# Altium schematic symbol library Project.SchLib: 28 symbols
Pins are listed as number, name and electrical type; pins without a type are passive.

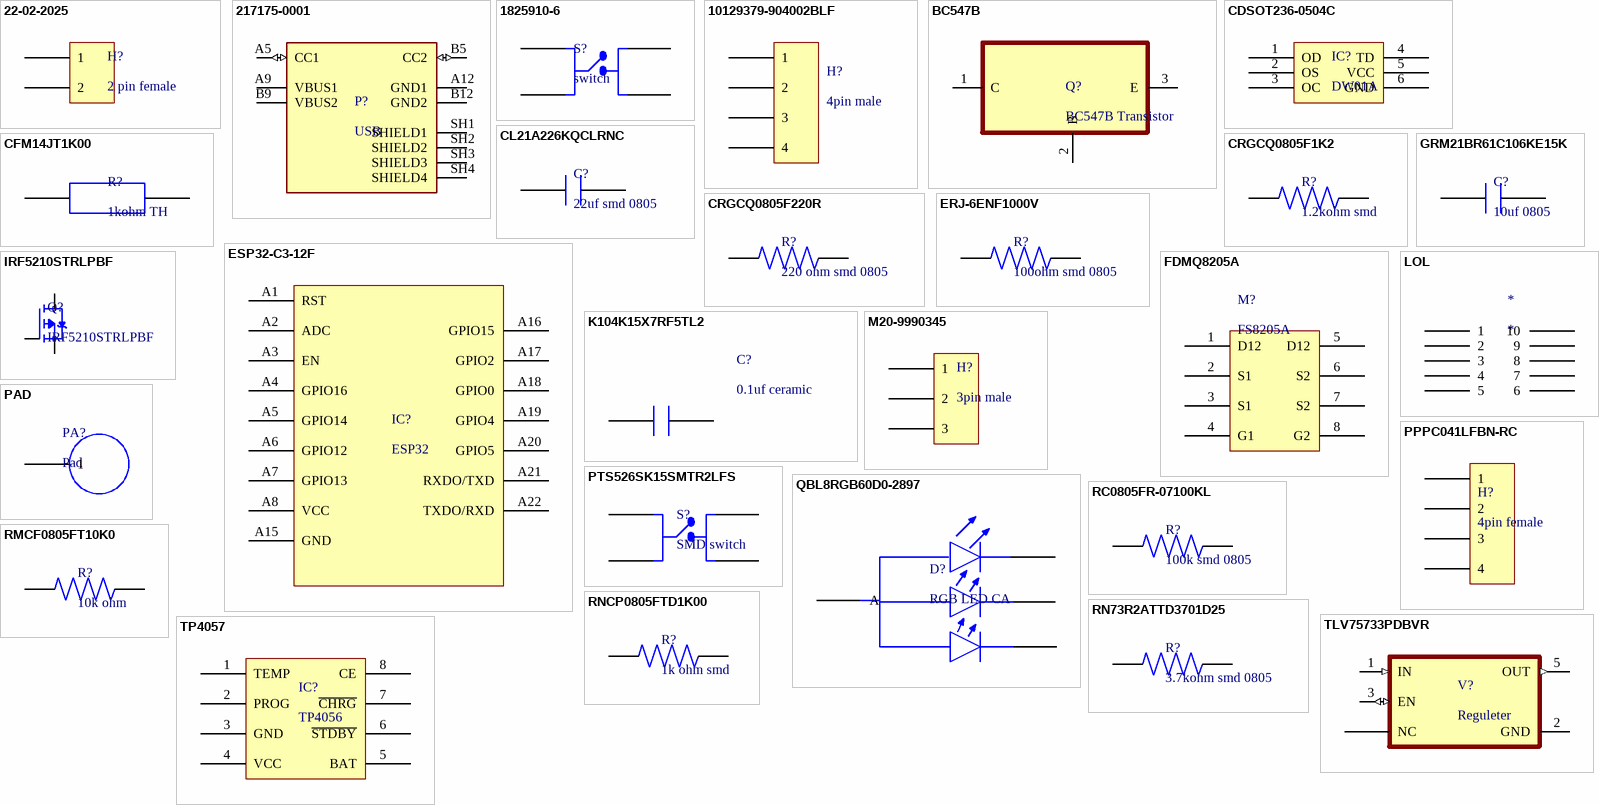
[diagram p0: symbols 22-02-2025 to TP4057]

## 22-02-2025
designator H?, comment 2 pin female
Board Connector, 2 Contact(s), 1 Row(s), Female, Straight, 0.1 inch Pitch, Solder Terminal, Plug; Manufacturer: Molex; Option: General Purpose; Board Mounting Option: PCB EDGE LOCKING HOOK; Contact Pattern: RECTANGULAR; Contact Resistance: 20mR; Contact Style: BELLOWED TYPE; Dielectric Withstanding Voltage (AC): 250V; Durability: 25Cycles; Filter Feature: No; Insertion Force-Max: 2.502N; Insulation Resistance: 500GR; Mating Information: MULTIPLE MATING PARTS AVAILABLE; Number Of Connectors: 1; Rated Current (Signal): 2.5A; Number of Contacts: 2; Withdrawl Force-Min: 0.834N; Body Breadth: 0.318inch; Body Depth: 0.31inch; Body Length: 0.196inch; Reference Standard: UL; Reliability: COMMERCIAL; Supplier: Mouser; Supplier Part Number: 538-22-02-2025; Manufacturer Part Number: 22-02-2025; RoHS: Yes; Category: Headers and Wire Housings; Stock: 7398; Pricing: 1=0.28, 10=0.242, 50=0.206, 100=0.188, 1000=0.157, 10000=0.123 (USD); Mounting Technology: Board; Contact Finish - Mating: NOT SPECIFIED; Insulation Material: Nylon; Min Operating Temperature: -40°C; Max Operating Temperature: 105°C; Connector Type: BOARD CONNECTOR; Body/Shell Style: PLUG; Contact Gender: Female; Mixed Contacts: No; Mounting Style: STRAIGHT; Number Of PCB Rows: 1; Number of Rows Loaded: 1; PCB Contact Pattern: RECTANGULAR; Termination: Solder; Mating Contact Pitch: 0.1inch; Terminal Length: 0.133inch; Terminal Pitch: 2.54mm; Flammability Rating: UL94 V-0; DIN Conformance: No; IEC Conformance: No; MIL Conformance: No; Reach SVHC Compliant: Yes; RoHS Compliant: Yes; ComponentLink1URL: https://datasheet.ciiva.com:443/pdfs/VipMasterIC/IC/MOLE/MOLE-S-A0003536749/MOLE-S-A0003534645-1.pdf?src-supplier=IHS+Markit; ComponentLink1Description: https://datasheet.ciiva.com:443/pdfs/VipMasterIC/IC/MOLE/MOLE-S-A0003536749/MOLE-S-A0003534645-1.pdf?src-supplier=IHS+Markit; ComponentLink2URL: https://datasheet.ciiva.com/15175/getdatasheetpartid-31375-15175253.pdf?src-supplier=Verical; ComponentLink2Description: https://datasheet.ciiva.com/15175/getdatasheetpartid-31375-15175253.pdf?src-supplier=Verical; ComponentLink3URL: https://datasheet.ciiva.com/30151/52630022022025-pcb-receptacles-30151741.pdf?src-supplier=Onlinecomponents.com; ComponentLink3Description: https://datasheet.ciiva.com/30151/52630022022025-pcb-receptacles-30151741.pdf?src-supplier=Onlinecomponents.com
footprint 2 pin female
pins: 1, 2

## 217175-0001
designator P?, comment USB
USB Type C - Connector, Top-mount, SMT, 6pos | Molex Incorporated 217175-0001; Supplier: Arrow Electronics; Supplier Part Number: 217175-0001; Manufacturer: Molex; Manufacturer Part Number: 217175-0001; RoHS: No; Category: Connectors; Stock: 4503; Pricing: 1=0.7777, 10=0.6391, 25=0.5562, 100=0.5234, 250=0.4834, 500=0.4331, 1000=0.3654, 4000=0.3393 (USD)
footprint usb type C
pins: A5 CC1 (io), A9 VBUS1 (power), A12 GND1 (power), B5 CC2 (io), B9 VBUS2 (power), B12 GND2 (power), SH1 SHIELD1, SH2 SHIELD2, SH3 SHIELD3, SH4 SHIELD4

## 1825910-6
designator S?, comment switch
Keypad Switch, 1 Switches, SPST, Momentary-tactile, 0.05A, 24VDC, 2.06N, 4 PCB Hole Cnt, Solder Terminal, Through Hole-straight; Manufacturer: TE Connectivity Alcoswitch; Manufacturer Part Number: 1825910-6; Circuit Configuration: 1X1; Contact Current(DC)-Max: 50mA; Contact DC Max Rating R Load: .05A@24VDC; Contact Voltage(DC)-Max: 24V; Number of Switches: 1; Body Breadth: 5.99mm; Body Height: 3.61mm; Supplier: Digikey; Supplier Part Number: 450-1650-ND; RoHS: Yes; Category: Pushbutton Switches; Stock: 41424; Pricing: 1=0.13, 10=0.118, 25=0.1112, 100=0.1001, 250=0.093, 750=0.08485, 1500=0.08009, 3000=0.07565, 5250=0.07234 (USD); Mounting Technology: Through Hole; Min Operating Temperature: -35°C; Max Operating Temperature: 85°C; Termination: Solder; Operating Force-Max: 2.06N; Switch Action: MOMENTARY; Switch Function: SPST; Switch Type: Keypad; Body Length or Diameter: 5.99mm; Reach SVHC Compliant: Yes; RoHS Compliant: Yes; ComponentLink1URL: https://datasheet.ciiva.com:443/pdfs/VipMasterIC/IC/TYEL/TYEL-S-A0008869674/TYEL-S-A0008850909-1.pdf?src-supplier=IHS+Markit; ComponentLink1Description: https://datasheet.ciiva.com:443/pdfs/VipMasterIC/IC/TYEL/TYEL-S-A0008869674/TYEL-S-A0008850909-1.pdf?src-supplier=IHS+Markit; ComponentLink2URL: https://datasheet.ciiva.com/30199/1825910-6rqpn1825910-6-30199520.pdf?src-supplier=Onlinecomponents.com; ComponentLink2Description: https://datasheet.ciiva.com/30199/1825910-6rqpn1825910-6-30199520.pdf?src-supplier=Onlinecomponents.com; ComponentLink3URL: https://datasheet.ciiva.com/15184/getdatasheetpartid-395915-15184509.pdf?src-supplier=Verical; ComponentLink3Description: https://datasheet.ciiva.com/15184/getdatasheetpartid-395915-15184509.pdf?src-supplier=Verical
footprint SW_TS02-66-60-BK-260-LCR-D
pins: 1, 2, 3, 4

## 10129379-904002BLF
designator H?, comment 4pin male
Conn Unshrouded Header HDR 4 POS 2.54mm Solder RA Thru-Hole Poly Bag; Manufacturer: Amphenol ICC / FCI; Manufacturer Part Number: 10129379-904002BLF; Supplier: Digikey; Supplier Part Number: 10129379-904002BLF-ND; RoHS: No; Category: Connectors; Stock: 19049; Pricing: 1=0.1, 10=0.087, 100=0.0739, 500=0.0659, 1000=0.06275, 5000=0.05601, 10000=0.05333 (USD)
footprint 4pin Header Male
pins: 1, 2, 3, 4

## BC547B
designator Q?, comment BC547B Transistor
Small Signal Bipolar Transistor, 0.1A I(C), 45V V(BR)CEO, 1-Element, NPN, Silicon, TO-92; Manufacturer: ON Semiconductor / Fairchild; Supplier: Digikey; Supplier Part Number: BC547BFS-ND; Manufacturer Part Number: BC547B; RoHS: Yes; Category: BJTs; Stock: 2396; Pricing: 1=0.38, 10=0.234, 100=0.1472, 500=0.10944, 1000=0.09723, 2000=0.08693 (USD); RoHS Compliant: Yes
footprint TO127P254X732-3
pins: 1 C, 2 B, 3 E

## CDSOT236-0504C
designator IC?, comment DW01A
Trans Voltage Suppressor Diode, 5V V(RWM), Unidirectional, 1 Element, Silicon; Manufacturer: Bourns; Manufacturer Part Number: CDSOT236-0504C; Package Body Material: Plastic; Min Breakdown Voltage: 6V; Number of Elements: 1; Qualification Status: Not Qualified; Supplier: Digikey; Supplier Part Number: CDSOT236-0504CCT-ND; RoHS: Yes; Category: TVS Diodes; Stock: 7352; Pricing: 1=1.33, 10=1.05, 100=0.738, 500=0.569, 1000=0.549 (USD); Pins: 6; Diode Element Material: SILICON; Package Shape: Rectangular; Terminal Finish: Tin; JESD-609 Code: e3; Polarity: Unidirectional; Diode Type: TRANS VOLTAGE SUPPRESSOR; JESD-30 Code: R-PDSO-G6; Moisture Sensitivity Level: 1; Package Style: SMALL OUTLINEMeter; Rep Pk Reverse Voltage-Max: 5V; Surface Mount: Yes; Technology: AVALANCHE; Terminal Form: Gull Wing; Terminal Position: DUAL; Reach SVHC Compliant: Yes; RoHS Compliant: Yes; ComponentLink1URL: https://datasheet.ciiva.com:443/pdfs/VipMasterIC/IC/BOUR/BOUR-S-A0008954902/BOUR-S-A0008954902-1.pdf?src-supplier=IHS+Markit; ComponentLink1Description: https://datasheet.ciiva.com:443/pdfs/VipMasterIC/IC/BOUR/BOUR-S-A0008954902/BOUR-S-A0008954902-1.pdf?src-supplier=IHS+Markit; ComponentLink2URL: https://datasheet.ciiva.com/4510/cdsot236-0504c-29206-4510980.pdf?src-supplier=Mouser; ComponentLink2Description: https://datasheet.ciiva.com/4510/cdsot236-0504c-29206-4510980.pdf?src-supplier=Mouser; ComponentLink3URL: https://datasheet.ciiva.com/11193/cdsot236-0504c-11193748.pdf?src-supplier=Avnet; ComponentLink3Description: https://datasheet.ciiva.com/11193/cdsot236-0504c-11193748.pdf?src-supplier=Avnet; ComponentLink4URL: https://datasheet.ciiva.com/1281/1-1281335.pdf?src-supplier=Farnell; ComponentLink4Description: https://datasheet.ciiva.com/1281/1-1281335.pdf?src-supplier=Farnell; ComponentLink5URL: https://datasheet.ciiva.com/6574/cdsot236-0504c-6574181.pdf?src-supplier=Digikey; ComponentLink5Description: https://datasheet.ciiva.com/6574/cdsot236-0504c-6574181.pdf?src-supplier=Digikey; ComponentLink6URL: https://datasheet.ciiva.com/6574/cdsot236-0504c-6574182.pdf?src-supplier=Digikey; ComponentLink6Description: https://datasheet.ciiva.com/6574/cdsot236-0504c-6574182.pdf?src-supplier=Digikey; ComponentLink7URL: https://datasheet.ciiva.com/15186/getdatasheetpartid-569616-15186666.pdf?src-supplier=Verical; ComponentLink7Description: https://datasheet.ciiva.com/15186/getdatasheetpartid-569616-15186666.pdf?src-supplier=Verical; ComponentLink8URL: https://datasheet.ciiva.com/1276/1-1276716.pdf?src-supplier=Element14; ComponentLink8Description: https://datasheet.ciiva.com/1276/1-1276716.pdf?src-supplier=Element14; ComponentLink9URL: https://datasheet.ciiva.com/6574/cdsot236-0504c-6574183.pdf?src-supplier=Digikey; ComponentLink9Description: https://datasheet.ciiva.com/6574/cdsot236-0504c-6574183.pdf?src-supplier=Digikey
footprint DW01 (SOIC, 6-Leads, Body 2.90x1.60mm, Pitch 1.27mm, IPC Medium Density)
pins: 1 OD, 2 OS, 3 OC, 4 TD, 5 VCC, 6 GND

## CFM14JT1K00
designator R?, comment 1kohm TH
Fixed Resistor, Carbon Film, 0.25W, 1000ohm, 250V, 5% +/-Tol, -400,0ppm/Cel, Through Hole Mount; Manufacturer: Stackpole Electronics; Manufacturer Part Number: CFM14JT1K00; Power: 250mW; Rated Temperature: 70°C; Value: 1kR; Temperature Coefficient (ppm/Cel): 400; Lead Diameter: 0.4mm; Lead Length: 28mm; Package Length: 3.3mm; Supplier: Digikey; Supplier Part Number: S1KQCT-ND; RoHS: Yes; Category: Through-Hole Resistors; Stock: 131385; Pricing: 1=0.1, 10=0.029, 25=0.024, 50=0.0208, 100=0.0183, 250=0.01548, 500=0.0137, 1000=0.01219 (USD); Mounting Technology: Through Hole; Pins: 2; Package Shape: Tubular; Terminal Finish: Tin; Min Operating Temperature: -55°C; Max Operating Temperature: 155°C; Tolerance: 5%; JESD-609 Code: e3; Resistor Type: FIXED RESISTOR; Construction: Tubular; Package Style: AXIAL; Packaging: Tape and Reel; Technology: CARBON FILM; Termination: Wire; Working Voltage: 250V; Reach SVHC Compliant: Yes; RoHS Compliant: Yes; ComponentLink1URL: https://datasheet.ciiva.com:443/pdfs/VipMasterIC/IC/SEIE/SEIE-S-A0009883960/SEIE-S-A0009883960-1.pdf?src-supplier=IHS+Markit; ComponentLink1Description: https://datasheet.ciiva.com:443/pdfs/VipMasterIC/IC/SEIE/SEIE-S-A0009883960/SEIE-S-A0009883960-1.pdf?src-supplier=IHS+Markit; ComponentLink2URL: http://components.arrow.com/part/dataview/27621868S3426685N1174?src-supplier=Arrow+Electronics; ComponentLink2Description: http://components.arrow.com/part/dataview/27621868S3426685N1174?src-supplier=Arrow+Electronics; ComponentLink3URL: http://www.seielect.com/Catalog/SEI-CF_CFM.pdf?src-supplier=Future+Electronics; ComponentLink3Description: http://www.seielect.com/Catalog/SEI-CF_CFM.pdf?src-supplier=Future+Electronics; ComponentLink4URL: https://www.seielect.com/catalog/SEI-CF_CFM.pdf?src-supplier=Avnet; ComponentLink4Description: https://www.seielect.com/catalog/SEI-CF_CFM.pdf?src-supplier=Avnet; ComponentLink5URL: https://www.seielect.com/catalog/sei-cf_cfm.pdf?src-supplier=Digikey; ComponentLink5Description: https://www.seielect.com/catalog/sei-cf_cfm.pdf?src-supplier=Digikey
footprint Resister TH
pins: 1 6, 2 7

## CL21A226KQCLRNC
designator C?, comment 22uf smd 0805
Ceramic Capacitor, Multilayer, Ceramic, 6.3V, 10% +Tol, 10% -Tol, X5R, 15% TC, 22uF, Surface Mount, 0805; Manufacturer: Samsung; Manufacturer Part Number: CL21A226KQCLRNC; Multilayer: Yes; Supplier: Digikey; Supplier Part Number: 1276-6687-1-ND; RoHS: Yes; Category: Ceramic Capacitors; Stock: 1272424; Pricing: 1=0.13, 10=0.074, 100=0.0448, 1000=0.02986 (USD); Mounting Technology: Surface Mount; Pins: 2; Dielectric Material: Ceramic; Package Shape: Rectangular; Case/Package: 0805; Terminal Finish: Nickel; Min Operating Temperature: -55°C; Max Operating Temperature: 85°C; JESD-609 Code: e3; Value: 22uF; Capacitor Type: Ceramic; Tolerance  (fill in as +-): 10%; Packaging: Tape and Reel; Tolerance (fill in as +-): 10%; Rated DC Voltage (URdc): 6.3V; Temperature Characteristics Code: X5R; Termination: Wraparound; Reach SVHC Compliant: Yes; RoHS Compliant: Yes; ComponentLink1URL: https://datasheet.ciiva.com:443/pdfs/VipMasterIC/IC/SEMS/SEMS-S-A0008526420/SEMS-S-A0008526436-1.pdf?src-supplier=IHS+Markit; ComponentLink1Description: https://datasheet.ciiva.com:443/pdfs/VipMasterIC/IC/SEMS/SEMS-S-A0008526420/SEMS-S-A0008526436-1.pdf?src-supplier=IHS+Markit; ComponentLink2URL: http://www.samsungsem.com/kr/support/product-search/mlcc/CL21A226KQCLRNC.jsp?src-supplier=Digikey; ComponentLink2Description: http://www.samsungsem.com/kr/support/product-search/mlcc/CL21A226KQCLRNC.jsp?src-supplier=Digikey; ComponentLink3URL: https://datasheet.octopart.com/CL21A226KQCLRNC-Samsung-Electro-Mechanics-datasheet-110333968.pdf?src-supplier=Future+Electronics; ComponentLink3Description: https://datasheet.octopart.com/CL21A226KQCLRNC-Samsung-Electro-Mechanics-datasheet-110333968.pdf?src-supplier=Future+Electronics
footprint 0805 SMD
pins: 1 4, 2 5

## CRGCQ0805F1K2
designator R?, comment 1.2kohm smd
Fixed Resistor, Metal Glaze/thick Film, 0.125W, 1200ohm, 150V, 1% +/-Tol, 100ppm/Cel, Surface Mount, 0805; Manufacturer: TE Connectivity; Manufacturer Part Number: CRGCQ0805F1K2; Supplier: Digikey; Supplier Part Number: A129750CT-ND; RoHS: Yes; Category: Chip SMD Resistors; Stock: 142199; Pricing: 1=0.1, 10=0.037, 100=0.0186, 1000=0.01059, 2500=0.00902 (USD); Pins: 2; Resistor Type: FIXED RESISTOR; Reach SVHC Compliant: Yes; RoHS Compliant: Yes; ComponentLink1URL: https://datasheet.ciiva.com:443/pdfs/VipMasterIC/IC/TYEL/TYEL-S-A0009522825/TYEL-S-A0009524615-1.pdf?src-supplier=IHS+Markit; ComponentLink1Description: https://datasheet.ciiva.com:443/pdfs/VipMasterIC/IC/TYEL/TYEL-S-A0009522825/TYEL-S-A0009524615-1.pdf?src-supplier=IHS+Markit; ComponentLink2URL: https://4donline.ihs.com/images/VipMasterIC/IC/TYEL/TYEL-S-A0004929575/TYEL-S-A0004929575-1.pdf?hkey=52A5661711E402568146F3353EA87419&src-supplier=Farnell; ComponentLink2Description: https://4donline.ihs.com/images/VipMasterIC/IC/TYEL/TYEL-S-A0004929575/TYEL-S-A0004929575-1.pdf?hkey=52A5661711E402568146F3353EA87419&src-supplier=Farnell; ComponentLink3URL: http://datasheet.octopart.com/CRGCQ0805F1K2-TE-Connectivity-datasheet-114679081.pdf?src-supplier=Verical; ComponentLink3Description: http://datasheet.octopart.com/CRGCQ0805F1K2-TE-Connectivity-datasheet-114679081.pdf?src-supplier=Verical; ComponentLink4URL: http://datasheet.octopart.com/CRGCQ0805F1K2-TE-Connectivity-datasheet-114679081.pdf?src-supplier=Mouser; ComponentLink4Description: http://datasheet.octopart.com/CRGCQ0805F1K2-TE-Connectivity-datasheet-114679081.pdf?src-supplier=Mouser; ComponentLink5URL: http://datasheet.octopart.com/CRGCQ0805F1K2-TE-Connectivity-datasheet-114679081.pdf?src-supplier=Arrow+Electronics; ComponentLink5Description: http://datasheet.octopart.com/CRGCQ0805F1K2-TE-Connectivity-datasheet-114679081.pdf?src-supplier=Arrow+Electronics; ComponentLink6URL: http://datasheet.octopart.com/CRGCQ0805F1K2-TE-Connectivity-datasheet-114679081.pdf?src-supplier=Avnet; ComponentLink6Description: http://datasheet.octopart.com/CRGCQ0805F1K2-TE-Connectivity-datasheet-114679081.pdf?src-supplier=Avnet; ComponentLink7URL: http://datasheet.octopart.com/CRGCQ0805F1K2-TE-Connectivity-datasheet-114679081.pdf?src-supplier=Digikey; ComponentLink7Description: http://datasheet.octopart.com/CRGCQ0805F1K2-TE-Connectivity-datasheet-114679081.pdf?src-supplier=Digikey; ComponentLink8URL: https://www.te.com/commerce/DocumentDelivery/DDEController?Action=srchrtrv&DocNm=1773204-3&DocType=DS&DocLang=English&src-supplier=Digikey; ComponentLink8Description: https://www.te.com/commerce/DocumentDelivery/DDEController?Action=srchrtrv&DocNm=1773204-3&DocType=DS&DocLang=English&src-supplier=Digikey; ComponentLink9URL: http://datasheet.octopart.com/CRGCQ0805F1K2-TE-Connectivity-datasheet-114679081.pdf?src-supplier=Onlinecomponents.com; ComponentLink9Description: http://datasheet.octopart.com/CRGCQ0805F1K2-TE-Connectivity-datasheet-114679081.pdf?src-supplier=Onlinecomponents.com; ComponentLink10URL: http://datasheet.octopart.com/CRGCQ0805F1K2-TE-Connectivity-datasheet-114679081.pdf?src-supplier=Newark; ComponentLink10Description: http://datasheet.octopart.com/CRGCQ0805F1K2-TE-Connectivity-datasheet-114679081.pdf?src-supplier=Newark; ComponentLink11URL: https://4donline.ihs.com/images/VipMasterIC/IC/TYEL/TYEL-S-A0004929575/TYEL-S-A0004929575-1.pdf?hkey=52A5661711E402568146F3353EA87419&src-supplier=Newark; ComponentLink11Description: https://4donline.ihs.com/images/VipMasterIC/IC/TYEL/TYEL-S-A0004929575/TYEL-S-A0004929575-1.pdf?hkey=52A5661711E402568146F3353EA87419&src-supplier=Newark; ComponentLink12URL: http://datasheet.octopart.com/CRGCQ0805F1K2-TE-Connectivity-datasheet-114679081.pdf?src-supplier=Heilind+Electronics; ComponentLink12Description: http://datasheet.octopart.com/CRGCQ0805F1K2-TE-Connectivity-datasheet-114679081.pdf?src-supplier=Heilind+Electronics; ComponentLink13URL: https://datasheet.octopart.com/CRGCQ0805F1K2-TE-Connectivity-datasheet-114679081.pdf?src-supplier=Master+Electronics; ComponentLink13Description: https://datasheet.octopart.com/CRGCQ0805F1K2-TE-Connectivity-datasheet-114679081.pdf?src-supplier=Master+Electronics; ComponentLink14URL: http://datasheet.octopart.com/CRGCQ0805F1K2-TE-Connectivity-datasheet-114679081.pdf?src-supplier=TME; ComponentLink14Description: http://datasheet.octopart.com/CRGCQ0805F1K2-TE-Connectivity-datasheet-114679081.pdf?src-supplier=TME; ComponentLink15URL: http://datasheet.octopart.com/CRGCQ0805F1K2-TE-Connectivity-datasheet-114679081.pdf?src-supplier=Electro+Sonic; ComponentLink15Description: http://datasheet.octopart.com/CRGCQ0805F1K2-TE-Connectivity-datasheet-114679081.pdf?src-supplier=Electro+Sonic; ComponentLink16URL: http://datasheet.octopart.com/CRGCQ0805F1K2-TE-Connectivity-datasheet-114679081.pdf?src-supplier=Sager+Electronics; ComponentLink16Description: http://datasheet.octopart.com/CRGCQ0805F1K2-TE-Connectivity-datasheet-114679081.pdf?src-supplier=Sager+Electronics; ComponentLink17URL: http://datasheet.octopart.com/CRGCQ0805F1K2-TE-Connectivity-datasheet-114679081.pdf?src-supplier=Interstate+Connecting+Components; ComponentLink17Description: http://datasheet.octopart.com/CRGCQ0805F1K2-TE-Connectivity-datasheet-114679081.pdf?src-supplier=Interstate+Connecting+Components
footprint 0805 SMD
pins: 1, 2

## CRGCQ0805F220R
designator R?, comment 220 ohm smd 0805
Fixed Resistor, Metal Glaze/thick Film, 0.125W, 220ohm, 150V, 1% +/-Tol, 100ppm/Cel, Surface Mount, 0805; Manufacturer: TE Connectivity; Manufacturer Part Number: CRGCQ0805F220R; Supplier: Digikey; Supplier Part Number: A129741CT-ND; RoHS: Yes; Category: Chip SMD Resistors; Stock: 1119462; Pricing: 1=0.1, 10=0.036, 100=0.0183, 1000=0.00952, 2500=0.00885 (USD); Pins: 2; Resistor Type: FIXED RESISTOR; Reach SVHC Compliant: Yes; RoHS Compliant: Yes; ComponentLink1URL: https://datasheet.ciiva.com:443/pdfs/VipMasterIC/IC/TYEL/TYEL-S-A0004929575/TYEL-S-A0004929575-1.pdf?src-supplier=IHS+Markit; ComponentLink1Description: https://datasheet.ciiva.com:443/pdfs/VipMasterIC/IC/TYEL/TYEL-S-A0004929575/TYEL-S-A0004929575-1.pdf?src-supplier=IHS+Markit; ComponentLink2URL: https://www.te.com/commerce/DocumentDelivery/DDEController?Action=srchrtrv&amp;DocNm=1773204-3&amp;DocType=DS&amp;DocLang=English&src-supplier=Digikey; ComponentLink2Description: https://www.te.com/commerce/DocumentDelivery/DDEController?Action=srchrtrv&amp;DocNm=1773204-3&amp;DocType=DS&amp;DocLang=English&src-supplier=Digikey; ComponentLink3URL: https://4donline.ihs.com/images/VipMasterIC/IC/TYEL/TYEL-S-A0004929575/TYEL-S-A0004929575-1.pdf?hkey=52A5661711E402568146F3353EA87419&src-supplier=Farnell; ComponentLink3Description: https://4donline.ihs.com/images/VipMasterIC/IC/TYEL/TYEL-S-A0004929575/TYEL-S-A0004929575-1.pdf?hkey=52A5661711E402568146F3353EA87419&src-supplier=Farnell; ComponentLink4URL: https://4donline.ihs.com/images/VipMasterIC/IC/TYEL/TYEL-S-A0004929575/TYEL-S-A0004929575-1.pdf?hkey=52A5661711E402568146F3353EA87419&src-supplier=Newark; ComponentLink4Description: https://4donline.ihs.com/images/VipMasterIC/IC/TYEL/TYEL-S-A0004929575/TYEL-S-A0004929575-1.pdf?hkey=52A5661711E402568146F3353EA87419&src-supplier=Newark; ComponentLink5URL: https://datasheet.octopart.com/CRGCQ0805F220R-TE-Connectivity-datasheet-114679081.pdf?src-supplier=Master+Electronics; ComponentLink5Description: https://datasheet.octopart.com/CRGCQ0805F220R-TE-Connectivity-datasheet-114679081.pdf?src-supplier=Master+Electronics
footprint 0805 SMD
pins: 1, 2

## ERJ-6ENF1000V
designator R?, comment 100ohm smd 0805
Fixed Resistor, Metal Glaze/thick Film, 0.125W, 100ohm, 150V, 1% +/-Tol, 100ppm/Cel, Surface Mount, 0805; Manufacturer: Panasonic; Manufacturer Part Number: ERJ-6ENF1000V; Power: 125mW; Rated Temperature: 70°C; Value: 100R; Temperature Coefficient (ppm/Cel): 100; Package Height: 0.6mm; Package Length: 2mm; Package Width: 1.25mm; Reference Standard: AEC-Q200; Supplier: Mouser; Supplier Part Number: 667-ERJ-6ENF1000V; RoHS: Yes; Category: Chip SMD Resistors; Stock: 326427; Pricing: 1=0.11, 10=0.053, 50=0.053, 100=0.028, 1000=0.017, 10000=0.01 (USD); Mounting Technology: Surface Mount; Pins: 2; Package Shape: Rectangular; Case/Package: 0805; Terminal Finish: Nickel; Min Operating Temperature: -55°C; Max Operating Temperature: 155°C; Tolerance: 1%; JESD-609 Code: e3; Resistor Type: FIXED RESISTOR; Construction: Rectangular; Packaging: Tape and Reel; Technology: METAL GLAZE/THICK FILM; Termination: Wraparound; Working Voltage: 150V; Reach SVHC Compliant: Yes; RoHS Compliant: Yes; ComponentLink1URL: https://datasheet.ciiva.com:443/pdfs/VipMasterIC/IC/PANA/PANA-S-A0009889626/PANA-S-A0009889626-1.pdf?src-supplier=IHS+Markit; ComponentLink1Description: https://datasheet.ciiva.com:443/pdfs/VipMasterIC/IC/PANA/PANA-S-A0009889626/PANA-S-A0009889626-1.pdf?src-supplier=IHS+Markit; ComponentLink2URL: https://datasheet.ciiva.com/11808/0900766b80f80784-11808206.pdf?src-supplier=Rs; ComponentLink2Description: https://datasheet.ciiva.com/11808/0900766b80f80784-11808206.pdf?src-supplier=Rs; ComponentLink3URL: https://datasheet.ciiva.com/9186/aoa0000ce2-9186686.pdf?src-supplier=Avnet; ComponentLink3Description: https://datasheet.ciiva.com/9186/aoa0000ce2-9186686.pdf?src-supplier=Avnet; ComponentLink4URL: https://datasheet.ciiva.com/30154/aoa0000ce2-30154938.pdf?src-supplier=Onlinecomponents.com; ComponentLink4Description: https://datasheet.ciiva.com/30154/aoa0000ce2-30154938.pdf?src-supplier=Onlinecomponents.com; ComponentLink5URL: https://datasheet.ciiva.com/46419/1678782-46419878.pdf?src-supplier=Element14; ComponentLink5Description: https://datasheet.ciiva.com/46419/1678782-46419878.pdf?src-supplier=Element14; ComponentLink6URL: https://datasheet.ciiva.com/7830/426256-7830744.pdf?src-supplier=Element14; ComponentLink6Description: https://datasheet.ciiva.com/7830/426256-7830744.pdf?src-supplier=Element14; ComponentLink7URL: https://datasheet.ciiva.com/7830/1678782-7830986.pdf?src-supplier=Element14; ComponentLink7Description: https://datasheet.ciiva.com/7830/1678782-7830986.pdf?src-supplier=Element14; ComponentLink8URL: https://datasheet.ciiva.com/16765/70260748-16765594.pdf?src-supplier=Allied+Electronics; ComponentLink8Description: https://datasheet.ciiva.com/16765/70260748-16765594.pdf?src-supplier=Allied+Electronics
footprint 0805 SMD
pins: 1, 2

## ESP32-C3-12F
designator IC?, comment ESP32
Wi-fi, BLE5.0, 32 Bit Mcu Int Ant; Manufacturer: RF Solutions; Manufacturer Part Number: ESP32-C3-12F; Supplier: Digikey; Supplier Part Number: 357-ESP32-C3-12F-ND; RoHS: No; Category: LDO; Stock: 13; Pricing: 1=7.67, 10=6.651 (USD)
footprint ESP 32 12f
pins: A1 RST, A2 ADC, A3 EN, A4 GPIO16, A5 GPIO14, A6 GPIO12, A7 GPIO13, A8 VCC, A15 GND, A16 GPIO15, A17 GPIO2, A18 GPIO0, A19 GPIO4, A20 GPIO5, A21 RXDO/TXD, A22 TXDO/RXD

## FDMQ8205A
designator M?, comment FS8205A
Small Signal Field-Effect Transistor, 1.7A I(D), 4-Element, N-Channel and P-Channel, Silicon, Metal-oxide Semiconductor FET; Manufacturer: ON Semiconductor / Fairchild; Manufacturer Part Number: FDMQ8205A; Supplier: Digikey; Supplier Part Number: FDMQ8205AOSCT-ND; RoHS: Yes; Category: Uncategorized; Stock: 2203; Pricing: 1=4.3, 10=2.833, 100=2.0004, 500=1.64488, 1000=1.5307 (USD); ComponentLink1URL: https://datasheet.ciiva.com:443/pdfs/VipMasterIC/IC/ONSM/ONSM-S-A0003590974/ONSM-S-A0003590675-1.pdf?src-supplier=IHS+Markit; ComponentLink1Description: https://datasheet.ciiva.com:443/pdfs/VipMasterIC/IC/ONSM/ONSM-S-A0003590974/ONSM-S-A0003590675-1.pdf?src-supplier=IHS+Markit; ComponentLink2URL: http://www.farnell.com/datasheets/2724479.pdf?src-supplier=Farnell; ComponentLink2Description: http://www.farnell.com/datasheets/2724479.pdf?src-supplier=Farnell; ComponentLink3URL: http://www.onsemi.com/pub/Collateral/FDMQ8205A-D.pdf?src-supplier=Digikey; ComponentLink3Description: http://www.onsemi.com/pub/Collateral/FDMQ8205A-D.pdf?src-supplier=Digikey; ComponentLink4URL: http://www.farnell.com/datasheets/2724479.pdf?src-supplier=Newark; ComponentLink4Description: http://www.farnell.com/datasheets/2724479.pdf?src-supplier=Newark
footprint FS8205A (TSOP, 8-Leads, Body 2.93x4.40mm, Pitch 0.65mm, IPC Medium Density)
pins: 1 D12, 2 S1, 3 S1, 4 G1, 5 D12, 6 S2, 7 S2, 8 G2

## GRM21BR61C106KE15K
designator C?, comment 10uf 0805
Ceramic Capacitor, Multilayer, Ceramic, 16V, 10% +Tol, 10% -Tol, X5R, 15% TC, 10uF, Surface Mount, 0805; Manufacturer: Murata; Manufacturer Part Number: GRM21BR61C106KE15K; Multilayer: Yes; Supplier: Mouser; Supplier Part Number: 81-GRM21BR61C106KE5K; RoHS: Yes; Category: Ceramic Capacitors; Stock: 207282; Pricing: 1=0.14, 10=0.073, 50=0.073, 100=0.044, 1000=0.03, 10000=0.019 (USD); Mounting Technology: Surface Mount; Pins: 2; Dielectric Material: Ceramic; Package Shape: Rectangular; Case/Package: 0805; Terminal Finish: Nickel; Min Operating Temperature: -55°C; Max Operating Temperature: 85°C; JESD-609 Code: e3; Value: 10uF; Capacitor Type: Ceramic; Tolerance  (fill in as +-): 10%; Package Style: SMTMeter; Packaging: Tape and Reel; Tolerance (fill in as +-): 10%; Rated DC Voltage (URdc): 16V; Temperature Characteristics Code: X5R; Termination: Wraparound; Length: 2mm; Width: 1.25mm; Height: 1.25mm; Reach SVHC Compliant: Yes; RoHS Compliant: Yes; ComponentLink1URL: https://psearch.en.murata.com:443/capacitor/product/GRM21BR61C106KE15%23.pdf?src-supplier=IHS+Markit; ComponentLink1Description: https://psearch.en.murata.com:443/capacitor/product/GRM21BR61C106KE15%23.pdf?src-supplier=IHS+Markit; ComponentLink2URL: https://datasheet.ciiva.com/26822/getdatasheetpartid-31687-26822939.pdf?src-supplier=Verical; ComponentLink2Description: https://datasheet.ciiva.com/26822/getdatasheetpartid-31687-26822939.pdf?src-supplier=Verical; ComponentLink3URL: https://datasheet.ciiva.com/5414/product-5414934.pdf?src-supplier=Mouser; ComponentLink3Description: https://datasheet.ciiva.com/5414/product-5414934.pdf?src-supplier=Mouser; ComponentLink4URL: https://datasheet.ciiva.com/6270/partnumbering-e-01-6270407.pdf?src-supplier=Digikey; ComponentLink4Description: https://datasheet.ciiva.com/6270/partnumbering-e-01-6270407.pdf?src-supplier=Digikey; ComponentLink5URL: https://datasheet.ciiva.com/6270/partnumbering-e-01-6270410.pdf?src-supplier=Digikey; ComponentLink5Description: https://datasheet.ciiva.com/6270/partnumbering-e-01-6270410.pdf?src-supplier=Digikey; ComponentLink6URL: https://datasheet.ciiva.com/6270/partnumbering-e-01-6270412.pdf?src-supplier=Digikey; ComponentLink6Description: https://datasheet.ciiva.com/6270/partnumbering-e-01-6270412.pdf?src-supplier=Digikey
footprint 0805 SMD
pins: 1 4, 2 5

## IRF5210STRLPBF
designator Q?
Power Field-Effect Transistor, 38A I(D), 100V, 0.06ohm, 1-Element, P-Channel, Silicon, Metal-oxide Semiconductor FET, TO-263AB; Manufacturer: Infineon; Package Body Material: Plastic; Avalanche Energy Rating (Eas): 120mJ; Case Connection: DRAIN; Drain-source On Resistance-Max: 60mR; Number of Elements: 1; Operating Mode: ENHANCEMENT MODE; Pulsed Drain Current-Max (IDM): 140A; Time @ Peak Reflow Temperature-Max (s): 30s; Transistor Application: SWITCHING; Power Dissipation-Max (Abs): 170W; Qualification Status: Not Qualified; Supplier: Mouser; Supplier Part Number: 942-IRF5210STRLPBF; Manufacturer Part Number: IRF5210STRLPBF; RoHS: Yes; Category: MOSFETs; Stock: 15276; Pricing: 1=3.59, 10=1.86, 50=1.82, 100=1.69, 1000=1.34, 10000=1.33 (USD); Pins: 2; Package Shape: Rectangular; Terminal Finish: Nickel; Transistor Element Material: SILICON; Max Operating Temperature: 150°C; JESD-609 Code: e3; Polarity/Channel Type: P-CHANNEL; Drain Current-Max (ID): 38A; DS Breakdown Voltage-Min: 100V; FET Technology: METAL-OXIDE SEMICONDUCTOR; JESD-30 Code: R-PSSO-G2; Moisture Sensitivity Level: 1; Package Style: SMALL OUTLINEMeter; Peak Reflow Temperature (Cel): 260°C; Surface Mount: Yes; Terminal Form: Gull Wing; Terminal Position: SINGLE; Drain Current-Max (Abs) (ID): 38A; JEDEC-95 Code: TO-263AB; RoHS Compliant: Yes; Reach SVHC Compliant: No; ComponentLink1URL: https://datasheet.ciiva.com:443/pdfs/VipMasterIC/IC/IRSD/IRSDS18784/IRSDS18784-1.pdf?src-supplier=IHS+Markit; ComponentLink1Description: https://datasheet.ciiva.com:443/pdfs/VipMasterIC/IC/IRSD/IRSDS18784/IRSDS18784-1.pdf?src-supplier=IHS+Markit
footprint TO254P1041X444X1930-3
pins: 1 G, 2 D, 3 S

## K104K15X7RF5TL2
designator C?, comment 0.1uf ceramic
Ceramic Capacitor, Multilayer, Ceramic, 50V, 10% +Tol, 10% -Tol, X7R, 15% TC, 0.1uF, Through Hole Mount; Manufacturer: Vishay BCcomponents; Manufacturer Part Number: K104K15X7RF5TL2; Value: 100nF; Multilayer: Yes; Supplier: Mouser; Supplier Part Number: 594-K104K15X7RF5TL2; RoHS: Yes; Category: Ceramic Capacitors; Stock: 25637; Pricing: 1=0.25, 10=0.134, 50=0.134, 100=0.093, 1000=0.066, 10000=0.048 (USD); Mounting Technology: Through Hole; Pins: 2; Dielectric Material: Ceramic; Package Shape: Rectangular; Terminal Finish: Tin; Min Operating Temperature: -55°C; Max Operating Temperature: 125°C; JESD-609 Code: e3; Capacitor Type: Ceramic; Tolerance  (fill in as +-): 10%; Package Style: RadialMeter; Packaging: Tape and Reel; Tolerance (fill in as +-): 10%; Rated DC Voltage (URdc): 50V; Temperature Characteristics Code: X7R; Termination: Wire; Length: 4mm; Width: 2.5mm; Height: 5.58mm; Terminal Pitch: 2.5mm; Reach SVHC Compliant: Yes; RoHS Compliant: Yes; ComponentLink1URL: https://datasheet.ciiva.com:443/pdfs/VipMasterIC/IC/VISH/VISHS88539/VISHS88539-1.pdf?src-supplier=IHS+Markit; ComponentLink1Description: https://datasheet.ciiva.com:443/pdfs/VipMasterIC/IC/VISH/VISHS88539/VISHS88539-1.pdf?src-supplier=IHS+Markit; ComponentLink2URL: https://datasheet.ciiva.com/5711/5950-5711596.pdf?src-supplier=Farnell; ComponentLink2Description: https://datasheet.ciiva.com/5711/5950-5711596.pdf?src-supplier=Farnell; ComponentLink3URL: https://datasheet.ciiva.com/3777/kseries-3777922.pdf?src-supplier=Arrow+Electronics; ComponentLink3Description: https://datasheet.ciiva.com/3777/kseries-3777922.pdf?src-supplier=Arrow+Electronics; ComponentLink4URL: https://datasheet.ciiva.com/15165/getdatasheetpartid-35651-15165099.pdf?src-supplier=Verical; ComponentLink4Description: https://datasheet.ciiva.com/15165/getdatasheetpartid-35651-15165099.pdf?src-supplier=Verical; ComponentLink5URL: https://datasheet.ciiva.com/145/kseries-145889.pdf?src-supplier=Digikey; ComponentLink5Description: https://datasheet.ciiva.com/145/kseries-145889.pdf?src-supplier=Digikey; ComponentLink6URL: https://datasheet.ciiva.com/145/kseries-145890.pdf?src-supplier=Digikey; ComponentLink6Description: https://datasheet.ciiva.com/145/kseries-145890.pdf?src-supplier=Digikey; ComponentLink7URL: https://datasheet.ciiva.com/5390/mkseries-205465-5390374.pdf?src-supplier=Mouser; ComponentLink7Description: https://datasheet.ciiva.com/5390/mkseries-205465-5390374.pdf?src-supplier=Mouser; ComponentLink8URL: https://datasheet.ciiva.com/7974/5950-7974781.pdf?src-supplier=Element14; ComponentLink8Description: https://datasheet.ciiva.com/7974/5950-7974781.pdf?src-supplier=Element14; ComponentLink9URL: https://datasheet.ciiva.com/18446/70121924-18446217.pdf?src-supplier=Allied+Electronics; ComponentLink9Description: https://datasheet.ciiva.com/18446/70121924-18446217.pdf?src-supplier=Allied+Electronics
footprint Capacitor
pins: 1 4, 2 5

## LOL
designator *
footprint DIP10
pins: 1, 2, 3, 4, 5, 6, 7, 8, 9, 10

## M20-9990345
designator H?, comment 3pin male
Board Connector, 3 Contact(s), 1 Row(s), Male, Straight, 0.1 inch Pitch, Solder Terminal, Locking, Black Insulator; Manufacturer: Harwin; Manufacturer Part Number: M20-9990345; Option: General Purpose; Additional Feature: ROHS COMPLIANT; Body/Shell Style: RECEPTACLE; Contact Pattern: RECTANGULAR; Contact Resistance: 25mR; Dielectric Withstanding Voltage (AC): 750V; Durability: 300Cycles; Filter Feature: No; Insulation Resistance: 1GR; Number Of Connectors: 1; Rated Current (Signal): 3A; Number of Contacts: 3; Body Length: 0.3inch; Reference Standard: UL; Reliability: COMMERCIAL; Supplier: Digikey; Supplier Part Number: 952-2263-ND; RoHS: Yes; Category: Headers and Wire Housings; Stock: 54918; Pricing: 1=0.15, 10=0.124, 100=0.1053, 500=0.09398, 1000=0.08949, 5000=0.07987, 10000=0.07606 (USD); Mounting Technology: Board; Contact Material: Brass; Contact Finish - Mating: GOLD; Contact Finish - Termination: Gold (Au) - with Nickel (Ni) barrier; Insulation Color: Black; Insulation Material: Nylon; Min Operating Temperature: -40°C; Max Operating Temperature: 105°C; JESD-609 Code: e4; Connector Type: BOARD CONNECTOR; Contact Gender: Male; Mixed Contacts: No; Mounting Style: STRAIGHT; Number Of PCB Rows: 1; Number of Rows Loaded: 1; Termination: Solder; Body Breadth: 0.1inch; Body Depth: 0.1inch; Mating Contact Pitch: 0.1inch; Mounting Option 1: LOCKING; Terminal Length: 0.118inch; Terminal Pitch: 2.54mm; Flammability Rating: UL94 V-0; Reach SVHC Compliant: Yes; RoHS Compliant: Yes; DIN Conformance: No; IEC Conformance: No; MIL Conformance: No; ComponentLink1URL: https://datasheet.ciiva.com:443/pdfs/VipMasterIC/IC/HRWN/HRWN-S-A0003033920/HRWN-S-A0003397280-1.pdf?src-supplier=IHS+Markit; ComponentLink1Description: https://datasheet.ciiva.com:443/pdfs/VipMasterIC/IC/HRWN/HRWN-S-A0003033920/HRWN-S-A0003397280-1.pdf?src-supplier=IHS+Markit; ComponentLink2URL: https://datasheet.ciiva.com/11747/0900766b80da602d-11747505.pdf?src-supplier=Rs; ComponentLink2Description: https://datasheet.ciiva.com/11747/0900766b80da602d-11747505.pdf?src-supplier=Rs; ComponentLink3URL: https://datasheet.ciiva.com/5160/m20-999-351179-5160492.pdf?src-supplier=Mouser; ComponentLink3Description: https://datasheet.ciiva.com/5160/m20-999-351179-5160492.pdf?src-supplier=Mouser; ComponentLink4URL: https://datasheet.ciiva.com/10151/m20-999-10151334.pdf?src-supplier=Avnet; ComponentLink4Description: https://datasheet.ciiva.com/10151/m20-999-10151334.pdf?src-supplier=Avnet
footprint 3 pin Male header
pins: 1, 2, 3

## PAD
designator PA?, comment Pad
footprint PAD
pins: 1

## PPPC041LFBN-RC
designator H?, comment 4pin female
Board Connector, 4 Contact(s), 1 Row(s), Female, Straight, 0.1 inch Pitch, Solder Terminal, Locking; Manufacturer: Sullins; Manufacturer Part Number: PPPC041LFBN-RC; Manufacturer Series: PP; Contact Pattern: RECTANGULAR; Contact Style: SQ PIN-SKT; Number Of Connectors: 1; Polarization Key: POLARIZED HOUSING; Rated Current (Signal): 3A; Number of Contacts: 4; Body Breadth: 0.094inch; Body Depth: 0.334inch; Body Length: 0.42inch; Reference Standard: UL; Reliability: COMMERCIAL; Supplier: Digikey; Supplier Part Number: S7037-ND; RoHS: Yes; Category: Connectors; Stock: 12576; Pricing: 1=0.42, 10=0.353, 100=0.2996, 500=0.26738, 1000=0.2546, 5000=0.22726, 10000=0.21641 (USD); Mounting Technology: Board; Contact Material: Bronze; Contact Finish - Mating: AU; Insulation Material: Polyester; Connector Type: BOARD CONNECTOR; Contact Gender: Female; Mounting Style: STRAIGHT; Number Of PCB Rows: 1; Number of Rows Loaded: 1; PCB Contact Pattern: RECTANGULAR; Termination: Solder; Mating Contact Pitch: 0.1inch; Mounting Option 1: LOCKING; Terminal Length: 0.125inch; Terminal Pitch: 2.54mm; Reach SVHC Compliant: Yes; RoHS Compliant: Yes; ComponentLink1URL: https://datasheet.ciiva.com:443/pdfs/VipMasterIC/IC/SUCS/SUCSS00270/SUCSS00270-1.pdf?src-supplier=IHS+Markit; ComponentLink1Description: https://datasheet.ciiva.com:443/pdfs/VipMasterIC/IC/SUCS/SUCSS00270/SUCSS00270-1.pdf?src-supplier=IHS+Markit; ComponentLink2URL: https://media.digikey.com/pdf/Data%20Sheets/Sullins%20PDFs/Female_Headers.100_DS.pdf?src-supplier=Digikey; ComponentLink2Description: https://media.digikey.com/pdf/Data%20Sheets/Sullins%20PDFs/Female_Headers.100_DS.pdf?src-supplier=Digikey; ComponentLink3URL: http://www.sullinscorp.com/catalogs/78_Page80-81_HEADER_.100_2.54mm_FEMALE.pdf?src-supplier=Future+Electronics; ComponentLink3Description: http://www.sullinscorp.com/catalogs/78_Page80-81_HEADER_.100_2.54mm_FEMALE.pdf?src-supplier=Future+Electronics; ComponentLink4URL: https://datasheet.octopart.com/PPPC041LFBN-RC-Sullins-datasheet-41308905.pdf?src-supplier=Future+Electronics; ComponentLink4Description: https://datasheet.octopart.com/PPPC041LFBN-RC-Sullins-datasheet-41308905.pdf?src-supplier=Future+Electronics
footprint 4pin female
pins: 1, 2, 3, 4

## PTS526SK15SMTR2LFS
designator S?, comment SMD switch
Switch Tactile N.O. SPST Round Button Gull Wing 0.05A 12VDC 200000Cycles 2.45N SMD T/R; Manufacturer: ITT C&K; Manufacturer Part Number: PTS526SK15SMTR2LFS; Supplier: Digikey; Supplier Part Number: CKN12221-1-ND; RoHS: No; Stock: 96228; Pricing: 1=0.14, 10=0.127, 25=0.1192, 100=0.1073, 250=0.09968, 500=0.09408, 1000=0.08878 (USD); ComponentLink1URL: https://dznh3ojzb2azq.cloudfront.net/products/Tactile/PTS526/documents/datasheet.pdf?src-supplier=Digikey; ComponentLink1Description: https://dznh3ojzb2azq.cloudfront.net/products/Tactile/PTS526/documents/datasheet.pdf?src-supplier=Digikey; ComponentLink2URL: https://datasheet.octopart.com/PTS526SK15SMTR2LFS-C%26K-Components-datasheet-138817219.pdf?src-supplier=Future+Electronics; ComponentLink2Description: https://datasheet.octopart.com/PTS526SK15SMTR2LFS-C%26K-Components-datasheet-138817219.pdf?src-supplier=Future+Electronics; ComponentLink3URL: https://datasheet.octopart.com/PTS526SK15SMTR2LFS-C%26K-Components-datasheet-166147767.pdf?src-supplier=TME; ComponentLink3Description: https://datasheet.octopart.com/PTS526SK15SMTR2LFS-C%26K-Components-datasheet-166147767.pdf?src-supplier=TME
footprint SOP127P600-8N
pins: 1, 2, 3, 4

## QBL8RGB60D0-2897
designator D?, comment RGB LED CA
Led Rgb, T-1 3/4, 5MM Round T/h,; Manufacturer: QT-Brightek; Manufacturer Part Number: QBL8RGB60D0-2897; Supplier: Digikey; Supplier Part Number: 1516-QBL8RGB60D0-2897-ND; RoHS: No; Category: LEDs; Stock: 24575; Pricing: 1=1.06, 10=0.743, 100=0.5504, 500=0.4646, 1000=0.43654, 2000=0.41271, 5000=0.3867, 10000=0.37049, 25000=0.35284 (USD)
footprint RGB LED
pins: 1, 2 A, 3 26, 4 27

## RC0805FR-07100KL
designator R?, comment 100k smd 0805
Fixed Resistor, Metal Glaze/thick Film, 0.125W, 100000ohm, 150V, 1% +/-Tol, 100ppm/Cel, Surface Mount, 0805; Manufacturer: Yageo; Manufacturer Part Number: RC0805FR-07100KL; Additional Feature: LASER TRIMMABLE; Power: 125mW; Rated Temperature: 70°C; Value: 100kR; Temperature Coefficient (ppm/Cel): 100; Package Height: 0.5mm; Package Length: 2mm; Package Width: 1.25mm; Supplier: Future Electronics; Supplier Part Number: 2952521; RoHS: Yes; Category: Chip SMD Resistors; Stock: 1365000; Pricing: 5000=0.0016, 25000=0.0015, 100000=0.0015, 250000=0.0014, 625000=0.0014 (USD); Mounting Technology: Surface Mount; Pins: 2; Package Shape: Rectangular; Case/Package: 0805; Terminal Finish: Nickel; Min Operating Temperature: -55°C; Max Operating Temperature: 155°C; Tolerance: 1%; JESD-609 Code: e3; Termination: Wraparound; Resistor Type: FIXED RESISTOR; Construction: Chip; Packaging: Tape and Reel; Technology: METAL GLAZE/THICK FILM; Working Voltage: 150V; Reach SVHC Compliant: Yes; RoHS Compliant: Yes; ComponentLink1URL: https://datasheet.ciiva.com:443/pdfs/VipMasterIC/IC/YAGO/YAGO-S-A0008145938/YAGO-S-A0008145938-1.pdf?src-supplier=IHS+Markit; ComponentLink1Description: https://datasheet.ciiva.com:443/pdfs/VipMasterIC/IC/YAGO/YAGO-S-A0008145938/YAGO-S-A0008145938-1.pdf?src-supplier=IHS+Markit; ComponentLink2URL: https://datasheet.ciiva.com/11808/0900766b8106beab-11808858.pdf?src-supplier=Rs; ComponentLink2Description: https://datasheet.ciiva.com/11808/0900766b8106beab-11808858.pdf?src-supplier=Rs; ComponentLink3URL: https://datasheet.ciiva.com/2457/pyu-r-int-thick-7-2457018.pdf?src-supplier=Digikey; ComponentLink3Description: https://datasheet.ciiva.com/2457/pyu-r-int-thick-7-2457018.pdf?src-supplier=Digikey; ComponentLink4URL: https://datasheet.ciiva.com/2457/pyu-r-int-thick-7-2457019.pdf?src-supplier=Digikey; ComponentLink4Description: https://datasheet.ciiva.com/2457/pyu-r-int-thick-7-2457019.pdf?src-supplier=Digikey; ComponentLink5URL: https://datasheet.ciiva.com/2457/pyu-r-int-thick-7-2457017.pdf?src-supplier=Digikey; ComponentLink5Description: https://datasheet.ciiva.com/2457/pyu-r-int-thick-7-2457017.pdf?src-supplier=Digikey; ComponentLink6URL: https://datasheet.ciiva.com/12667/rc0805-12667001.pdf?src-supplier=Mouser; ComponentLink6Description: https://datasheet.ciiva.com/12667/rc0805-12667001.pdf?src-supplier=Mouser; ComponentLink7URL: https://datasheet.ciiva.com/7941/1697719-7941676.pdf?src-supplier=Element14; ComponentLink7Description: https://datasheet.ciiva.com/7941/1697719-7941676.pdf?src-supplier=Element14; ComponentLink8URL: https://datasheet.ciiva.com/7941/1686128-7941677.pdf?src-supplier=Element14; ComponentLink8Description: https://datasheet.ciiva.com/7941/1686128-7941677.pdf?src-supplier=Element14; ComponentLink9URL: https://datasheet.ciiva.com/7660/38627-7660796.pdf?src-supplier=Element14; ComponentLink9Description: https://datasheet.ciiva.com/7660/38627-7660796.pdf?src-supplier=Element14; ComponentLink10URL: https://datasheet.ciiva.com/22747/444164-22747534.pdf?src-supplier=Element14; ComponentLink10Description: https://datasheet.ciiva.com/22747/444164-22747534.pdf?src-supplier=Element14; ComponentLink11URL: https://datasheet.ciiva.com/7941/1697719-7941678.pdf?src-supplier=Element14; ComponentLink11Description: https://datasheet.ciiva.com/7941/1697719-7941678.pdf?src-supplier=Element14; ComponentLink12URL: https://datasheet.ciiva.com/16747/rc0805-16747226.pdf?src-supplier=Future+Electronics; ComponentLink12Description: https://datasheet.ciiva.com/16747/rc0805-16747226.pdf?src-supplier=Future+Electronics
footprint 0805 SMD
pins: 1, 2

## RMCF0805FT10K0
designator R?, comment 10k ohm
Fixed Resistor, Metal Glaze/thick Film, 0.125W, 10000ohm, 150V, 1% +/-Tol, 100ppm/Cel, Surface Mount, 0805; Manufacturer: Stackpole Electronics; Manufacturer Part Number: RMCF0805FT10K0; Power: 125mW; Rated Temperature: 70°C; Value: 10kR; Temperature Coefficient (ppm/Cel): 100; Package Height: 0.5mm; Package Length: 2mm; Package Width: 1.25mm; Reference Standard: AEC-Q200; Supplier: Digikey; Supplier Part Number: RMCF0805FT10K0CT-ND; RoHS: Yes; Category: Chip SMD Resistors; Stock: 1368386; Pricing: 1=0.1, 10=0.025, 100=0.012, 1000=0.00658, 2500=0.00538 (USD); Mounting Technology: Surface Mount; Pins: 2; Package Shape: Rectangular; Case/Package: 0805; Terminal Finish: Nickel; Min Operating Temperature: -55°C; Max Operating Temperature: 155°C; Tolerance: 1%; JESD-609 Code: e3; Resistor Type: FIXED RESISTOR; Construction: Rectangular; Packaging: Tape and Reel; Technology: METAL GLAZE/THICK FILM; Termination: Wraparound; Working Voltage: 150V; Reach SVHC Compliant: Yes; RoHS Compliant: Yes; ComponentLink1URL: https://datasheet.ciiva.com:443/pdfs/VipMasterIC/IC/SEIE/SEIE-S-A0009541969/SEIE-S-A0009541969-1.pdf?src-supplier=IHS+Markit; ComponentLink1Description: https://datasheet.ciiva.com:443/pdfs/VipMasterIC/IC/SEIE/SEIE-S-A0009541969/SEIE-S-A0009541969-1.pdf?src-supplier=IHS+Markit; ComponentLink2URL: https://datasheet.ciiva.com/15193/getdatasheetpartid-362046-15193525.pdf?src-supplier=Verical; ComponentLink2Description: https://datasheet.ciiva.com/15193/getdatasheetpartid-362046-15193525.pdf?src-supplier=Verical
footprint 0805 SMD
pins: 1, 2

## RN73R2ATTD3701D25
designator R?, comment 3.7kohm smd 0805
Fixed Resistor, Thin Film, 0.125W, 3700ohm, 150V, 0.5% +/-Tol, 25ppm/Cel, Surface Mount, 0805; Manufacturer: KOA Speer; Manufacturer Part Number: RN73R2ATTD3701D25; Supplier: Digikey; Supplier Part Number: 2019-RN73R2ATTD3701D25CT-ND; RoHS: Yes; Category: Chip SMD Resistors; Stock: 862; Pricing: 1=0.1, 10=0.078, 50=0.0688, 100=0.065, 500=0.0571 (USD)
footprint 0805 SMD
pins: 1, 2

## RNCP0805FTD1K00
designator R?, comment 1k ohm smd
Fixed Resistor, Thin Film, 0.25W, 1000ohm, 200V, 1% +/-Tol, 100ppm/Cel, Surface Mount, 0805; Manufacturer: Stackpole Electronics; Manufacturer Part Number: RNCP0805FTD1K00; Additional Feature: ANTI-SULFUR; Power: 250mW; Rated Temperature: 70°C; Value: 1kR; Temperature Coefficient (ppm/Cel): 100; Package Height: 0.5mm; Package Length: 2mm; Package Width: 1.25mm; Supplier: Digikey; Supplier Part Number: RNCP0805FTD1K00CT-ND; RoHS: Yes; Category: Chip SMD Resistors; Stock: 258243; Pricing: 1=0.1, 10=0.015, 50=0.013, 100=0.0101 (USD); Mounting Technology: Surface Mount; Pins: 2; Package Shape: Rectangular; Case/Package: 0805; Terminal Finish: Nickel; Min Operating Temperature: -55°C; Max Operating Temperature: 155°C; Tolerance: 1%; JESD-609 Code: e3; Resistor Type: FIXED RESISTOR; Construction: Chip; Packaging: Tape and Reel; Technology: THIN FILM; Termination: Wraparound; Working Voltage: 200V; Reach SVHC Compliant: Yes; RoHS Compliant: Yes; ComponentLink1URL: https://datasheet.ciiva.com:443/pdfs/VipMasterIC/IC/SEIE/SEIE-S-A0009893778/SEIE-S-A0009893778-1.pdf?src-supplier=IHS+Markit; ComponentLink1Description: https://datasheet.ciiva.com:443/pdfs/VipMasterIC/IC/SEIE/SEIE-S-A0009893778/SEIE-S-A0009893778-1.pdf?src-supplier=IHS+Markit; ComponentLink2URL: http://www.seielect.com/Catalog/SEI-rncp.pdf?src-supplier=Future+Electronics; ComponentLink2Description: http://www.seielect.com/Catalog/SEI-rncp.pdf?src-supplier=Future+Electronics; ComponentLink3URL: https://www.seielect.com/catalog/SEI-Packaging.pdf?src-supplier=Digikey; ComponentLink3Description: https://www.seielect.com/catalog/SEI-Packaging.pdf?src-supplier=Digikey; ComponentLink4URL: https://www.seielect.com/Catalog/SEI-rncp.pdf?src-supplier=Digikey; ComponentLink4Description: https://www.seielect.com/Catalog/SEI-rncp.pdf?src-supplier=Digikey
footprint 0805 SMD
pins: 1, 2

## TLV75733PDBVR
designator V?, comment Reguleter
Fixed Positive LDO Regulator, 3.3V, 0.475V Dropout, PDSO5; Manufacturer: Texas Instruments; Manufacturer Part Number: TLV75733PDBVR; Regulator Type: FIXED POSITIVE SINGLE OUTPUT LDO REGULATOR; Supplier: Mouser; Supplier Part Number: 595-TLV75733PDBVR; RoHS: Yes; Category: Voltage Regulators - Linear; Stock: 11229; Pricing: 1=0.29, 10=0.196, 50=0.174, 100=0.15, 1000=0.125, 10000=0.11 (USD); Terminal Finish: Tin; JESD-609 Code: e3; Moisture Sensitivity Level: 1; Reach SVHC Compliant: Yes; RoHS Compliant: Yes; ComponentLink1URL: https://www.ti.com:443/lit/ds/symlink/tlv757p.pdf?src-supplier=IHS+Markit; ComponentLink1Description: https://www.ti.com:443/lit/ds/symlink/tlv757p.pdf?src-supplier=IHS+Markit; ComponentLink2URL: http://www.ti.com/lit/ds/symlink/tlv757p.pdf?src-supplier=Digikey; ComponentLink2Description: http://www.ti.com/lit/ds/symlink/tlv757p.pdf?src-supplier=Digikey
footprint SOT95P280X145-5N
pins: 1 IN (in), 2 GND (power), 3 EN (io), 4 NC, 5 OUT (out)

## TP4057
designator IC?, comment TP4056
Manufacturer: Revvo; Manufacturer Part Number: TP4057; Supplier: Digikey; Supplier Part Number: 5272-TP4057CT-ND; RoHS: No; Stock: 1917; Pricing: 1=0.45, 10=0.269, 25=0.2196, 100=0.1645, 250=0.13732, 500=0.1206, 1000=0.10656 (USD)
footprint TP 4056
pins: 1 TEMP, 2 PROG, 3 GND, 4 VCC, 5 BAT, 6 ~{STDBY}, 7 ~{CHRG}, 8 CE